# Altium footprint library 3pin.PcbLib: 1 footprints
Each footprint in its own frame and in the unit in brackets; x right, y up, seen from the top. Pads: shape width x height; smd on the part's side, far side on the other; paste and mask are expansions set on the pad; w line width, h text height; cw(c..) or ccw(c..) is an arc to the next point about the centre after c.
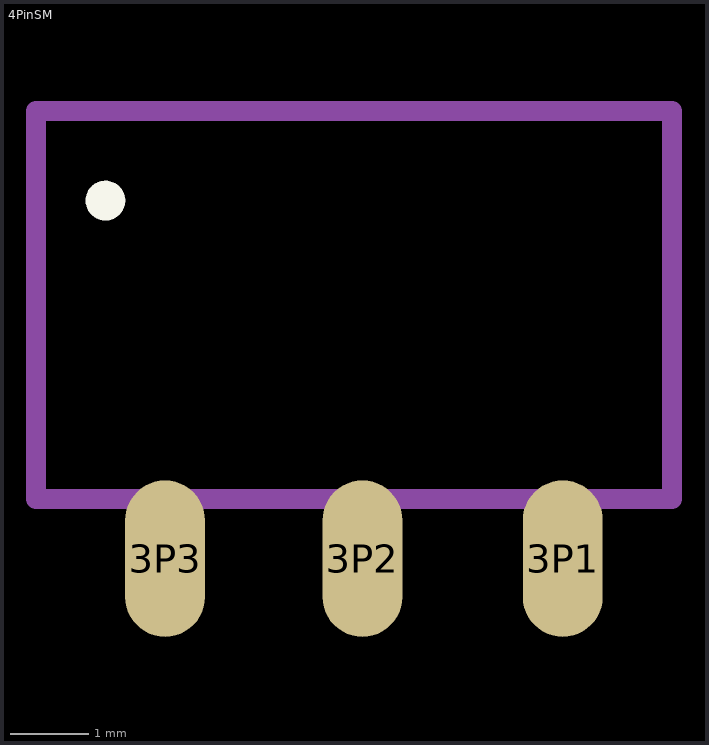
[diagram p0: the footprint, top view; thin cyan lines are the x and y axes]

## 4PinSM [mm]
pads (3):
  oval 1.02x2 smd: 3P1(9.398,3.937) 3P2(6.838,3.937) 3P3(4.318,3.937)
Top Overlay:
  circle w0.254: c3.556,8.509 r0.127
Mechanical 1:
  lines w0.254: 2.667,4.699 2.667,9.652 10.795,9.652 10.795,4.699 2.667,4.699